# EAGLE library part TD62783AG (library NDN)
Octal High-side driver
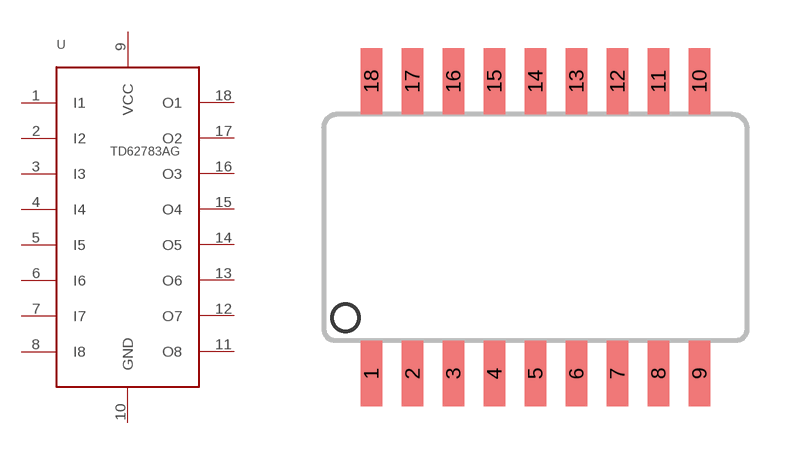
[diagram p1: symbol with the pads of SOP18; footprint SOP18]

Designator prefix -

## TD62783AG  [SOP18]
1  I1
2  I2
3  I3
4  I4
5  I5
6  I6
7  I7
8  I8
9  VCC
10  GND
11  O8
12  O7
13  O6
14  O5
15  O4
16  O3
17  O2
18  O1

## Footprint SOP18 (pad centres in mm)
smd 0.66 x 2.032: 1 -3.9,-4.525; 2 -2.625,-4.525; 3 -1.36,-4.525; 4 -0.09,-4.525; 5 1.18,-4.525; 6 2.45,-4.525; 7 3.72,-4.525; 8 4.99,-4.525; 9 6.26,-4.525; 10 6.26,4.525; 11 4.99,4.525; 12 3.72,4.525; 13 2.45,4.525; 14 1.18,4.525; 15 -0.09,4.525; 16 -1.36,4.525; 17 -2.63,4.525; 18 -3.9,4.525